# EAGLE library part MICRO-USB_B_US-205 (library Dandanator CPC MX4 v1.2 Rwd)
MINI USB-B R/A W/O POST 5 pol. Source: www.cypressindustries.com
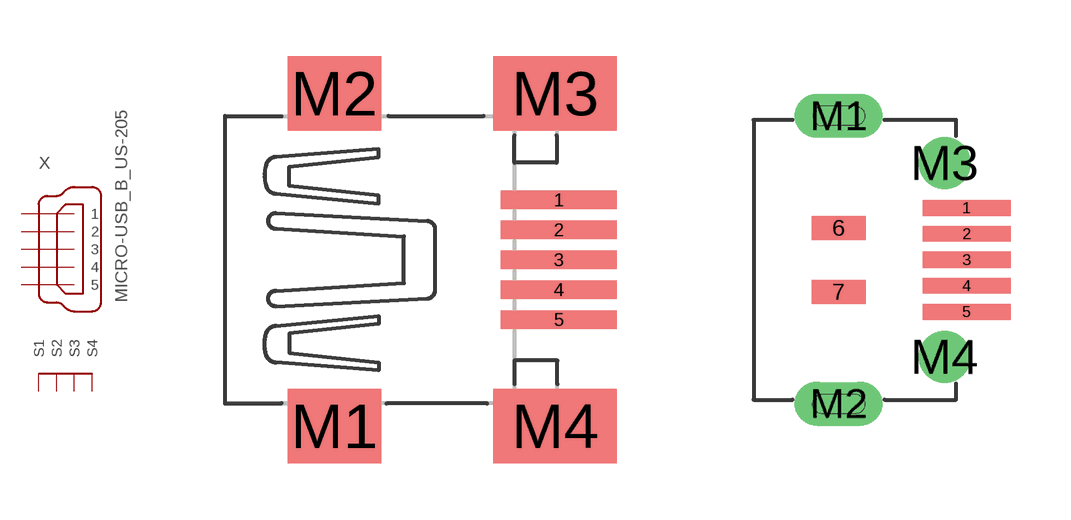
[diagram p5: symbol with the pads of CON-CYPRESSINDUSTRIES_32005-400; footprints CON-CYPRESSINDUSTRIES_32005-400, MICRO-USB_B_US-205_DIP]

Designator prefix X

## MICRO-USB_B_US-20532005-400 (OC_FARNELL: unknown; OC_NEWARK: unknown)  [CON-CYPRESSINDUSTRIES_32005-400]
1  1  pas
2  2  pas
3  3  pas
4  4  pas
5  5  pas
M1  S1  pas
M2  S2  pas
M3  S3  pas
M4  S4  pas

## MICRO-USB_B_US-205  [MICRO-USB_B_US-205_DIP]
Pads as for CON-CYPRESSINDUSTRIES_32005-400

## Footprint CON-CYPRESSINDUSTRIES_32005-400 (pad centres in mm)
MINI USB-B R/A SMT W/O POST Source: http://www.cypressindustries.com/pdf/32005-400.pdf
smd 3.1 x 0.5: 1 3,1.6; 2 3,0.8; 3 3,0; 4 3,-0.8; 5 3,-1.6
smd 2.5 x 2: M1 -3,-4.45; M2 -3,4.45
smd 3.3 x 2: M3 2.9,4.45; M4 2.9,-4.45

## Footprint MICRO-USB_B_US-205_DIP (pad centres in mm)
MINI USB_B/F/SMT/TYPE III Source: http://www.cypressindustries.com/pdf/ccmusb-32005-501.pdf
smd 2.2 x 0.4: 1 4.95,1.3; 2 4.95,0.65; 3 4.95,0; 4 4.95,-0.65; 5 4.95,-1.3
smd 1.35 x 0.6: 6 1.75,0.8; 7 1.75,-0.8
drill 0.5 pad 1.1 long: M1 1.75,3.6; M2 1.75,-3.6
drill 0.7 pad 1.3: M3 4.4,2.425; M4 4.4,-2.425